# Altium footprint library RES-1206.PcbLib: 1 footprints
Each footprint in its own frame and in the unit in brackets; x right, y up, seen from the top. Pads: shape width x height; smd on the part's side, far side on the other; paste and mask are expansions set on the pad; w line width, h text height; cw(c..) or ccw(c..) is an arc to the next point about the centre after c.
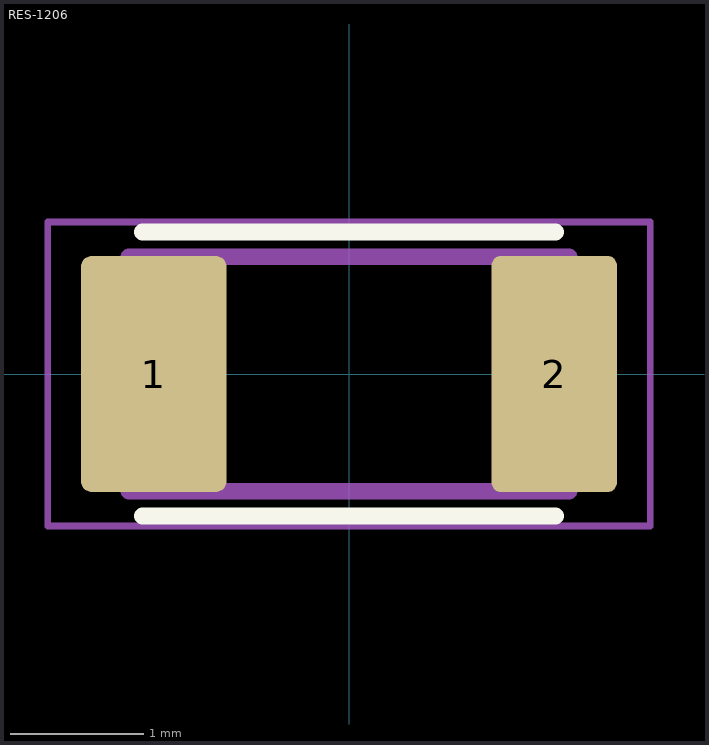
[diagram p0: the footprint, top view; thin cyan lines are the x and y axes]

## RES-1206 [mm]
pads (2):
  rrect14% 1.09x1.77 smd: 1(-1.465,0)
  rrect14% 0.94x1.77 smd: 2(1.54,0)
Top Overlay:
  lines w0.127: -1.55,-1.065 1.55,-1.065 ; -1.55,1.065 1.55,1.065
Mechanical 13:
  lines w0.127: -1.65,-0.88 -1.65,0.88 1.65,0.88 1.65,-0.88 -1.65,-0.88
Mechanical 15:
  lines w0.05: -2.26,-1.14 -2.26,1.14 2.26,1.14 2.26,-1.14 -2.26,-1.14
3D body "RESC1206 v1.step": height 0.55, standoff 0, extent -1.6,-0.8 1.6,0.8